# EAGLE library part CD74HC137 (library ORBiT-IC-Nexperia)
74HC137 3-to-8 line decoder, demultiplexer with address latches; inverting The 74HC137 is a high-speed Si-gate CMOS device and is pin compatible with low power Schottky TTL (LSTTL). The 74HC137 is specified in compliance with JEDEC standard no. 7A. The 74HC137 is a 3-to-8 line decoder, demultiplexer with latches at the three address inputs (An). The 74HC137 essentially combines the 3-to-8 decoder function with a 3-bit storage latch. When the latch is enabled (LE = LOW), the 74HC137 acts as a 3-to-8 active LOW decoder. When the latch enable (LE) goes from LOW-to-HIGH, the last data present at the inputs before this transition, is stored in the latches. Further address changes are ignored as long as LE remains HIGH. The output enable input (E1 and E2) controls the state of the outputs independent of the address inputs or latch operation. All outputs are HIGH unless E1 is LOW and E2 is HIGH. The 74HC137 is ideally suited for implementing non-overlapping decoders in 3-state systems and strobed (stored address) applications in bus oriented systems. Features: Combines 3-to-8 decoder with 3-bit latch Multiple input enable for easy expansion or independent controls Active LOW mutually exclusive outputs Low-power dissipation Complies with JEDEC standard no. 7A ESD protection: HBM EIA/JESD22-A114-B exceeds 2000 V MM EIA/JESD22-A115-A exceeds 200 V Specified from -40 °C to +80 °C and from -40 °C to +125 °C Technical data: 74HC137 3-to-8 line decoder, demultiplexer with address latches; inverting | Nexperia <https://www.nexperia.com/products/logic/i-o-expansion-logic/decoders-demultiplexers/series/74HC137.html>
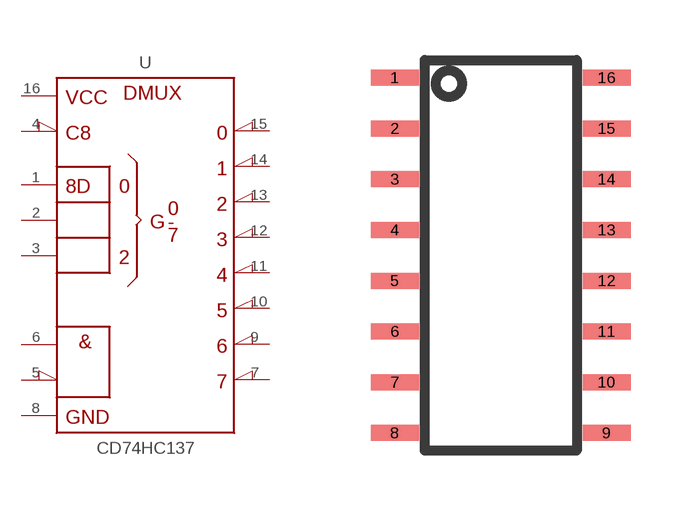
[diagram p0: symbol with the pads of SO16; footprint SO16]

Designator prefix U

## CD74HC137D (MF: Nexperia; MPN: 74HC137D; PN_DIGIKEY: 1727-6312-1-ND; PN_MOUSER: 771-74HC137D-T)  [SO16]
1  A  in
2  B  in
3  C  in
4  !GL  in
5  !G2  in
6  G1  in
7  Y7  out
8  GND  in
9  Y6  out
10  Y5  out
11  Y4  out
12  Y3  out
13  Y2  out
14  Y1  out
15  Y0  out
16  VCC  in

## Footprint SO16 (pad centres in mm)
Plastic Small-Outline Package SO-16 JEDEC MS-012 AC
smd 1.2 x 0.4: 1 -2.65,4.445; 2 -2.65,3.175; 3 -2.65,1.905; 4 -2.65,0.635; 5 -2.65,-0.635; 6 -2.65,-1.905; 7 -2.65,-3.175; 8 -2.65,-4.445; 9 2.65,-4.445; 10 2.65,-3.175; 11 2.65,-1.905; 12 2.65,-0.635; 13 2.65,0.635; 14 2.65,1.905; 15 2.65,3.175; 16 2.65,4.445